# EAGLE library part RFM12 (library untitled)
Funkmodul RFM12 von Pollin (Best.Nr. 810 049)
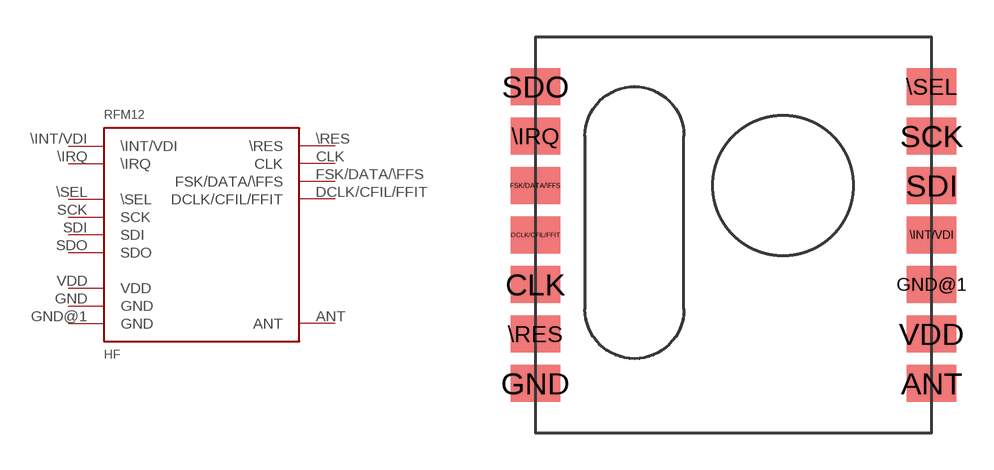
[diagram p0: symbol with the pads of RFM12; footprint RFM12]

Designator prefix HF

## RFM12  [RFM12]
\INT/VDI  \INT/VDI
\IRQ  \IRQ  out
\RES  \RES
\SEL  \SEL  in
ANT  ANT  pas
CLK  CLK  out
DCLK/CFIL/FFIT  DCLK/CFIL/FFIT
FSK/DATA/\FFS  FSK/DATA/\FFS
GND  GND  pwr
GND@1  GND  pwr
SCK  SCK  in
SDI  SDI  in
SDO  SDO  out
VDD  VDD  pwr

## Footprint RFM12 (pad centres in mm)
smd 2 x 1.5: \INT/VDI 8,0; \IRQ -8,4; \RES -8,-4; \SEL 8,6; ANT 8,-6; CLK -8,-2; DCLK/CFIL/FFIT -8,0; FSK/DATA/\FFS -8,2; GND -8,-6; GND@1 8,-2; SCK 8,4; SDI 8,2; SDO -8,6; VDD 8,-4